# Altium footprint library diode.PcbLib: 49 footprints (part 2 of 4)
Each footprint in its own frame and in the unit in brackets; x right, y up, seen from the top. Pads: shape width x height; smd on the part's side, far side on the other; paste and mask are expansions set on the pad; w line width, h text height; cw(c..) or ccw(c..) is an arc to the next point about the centre after c.
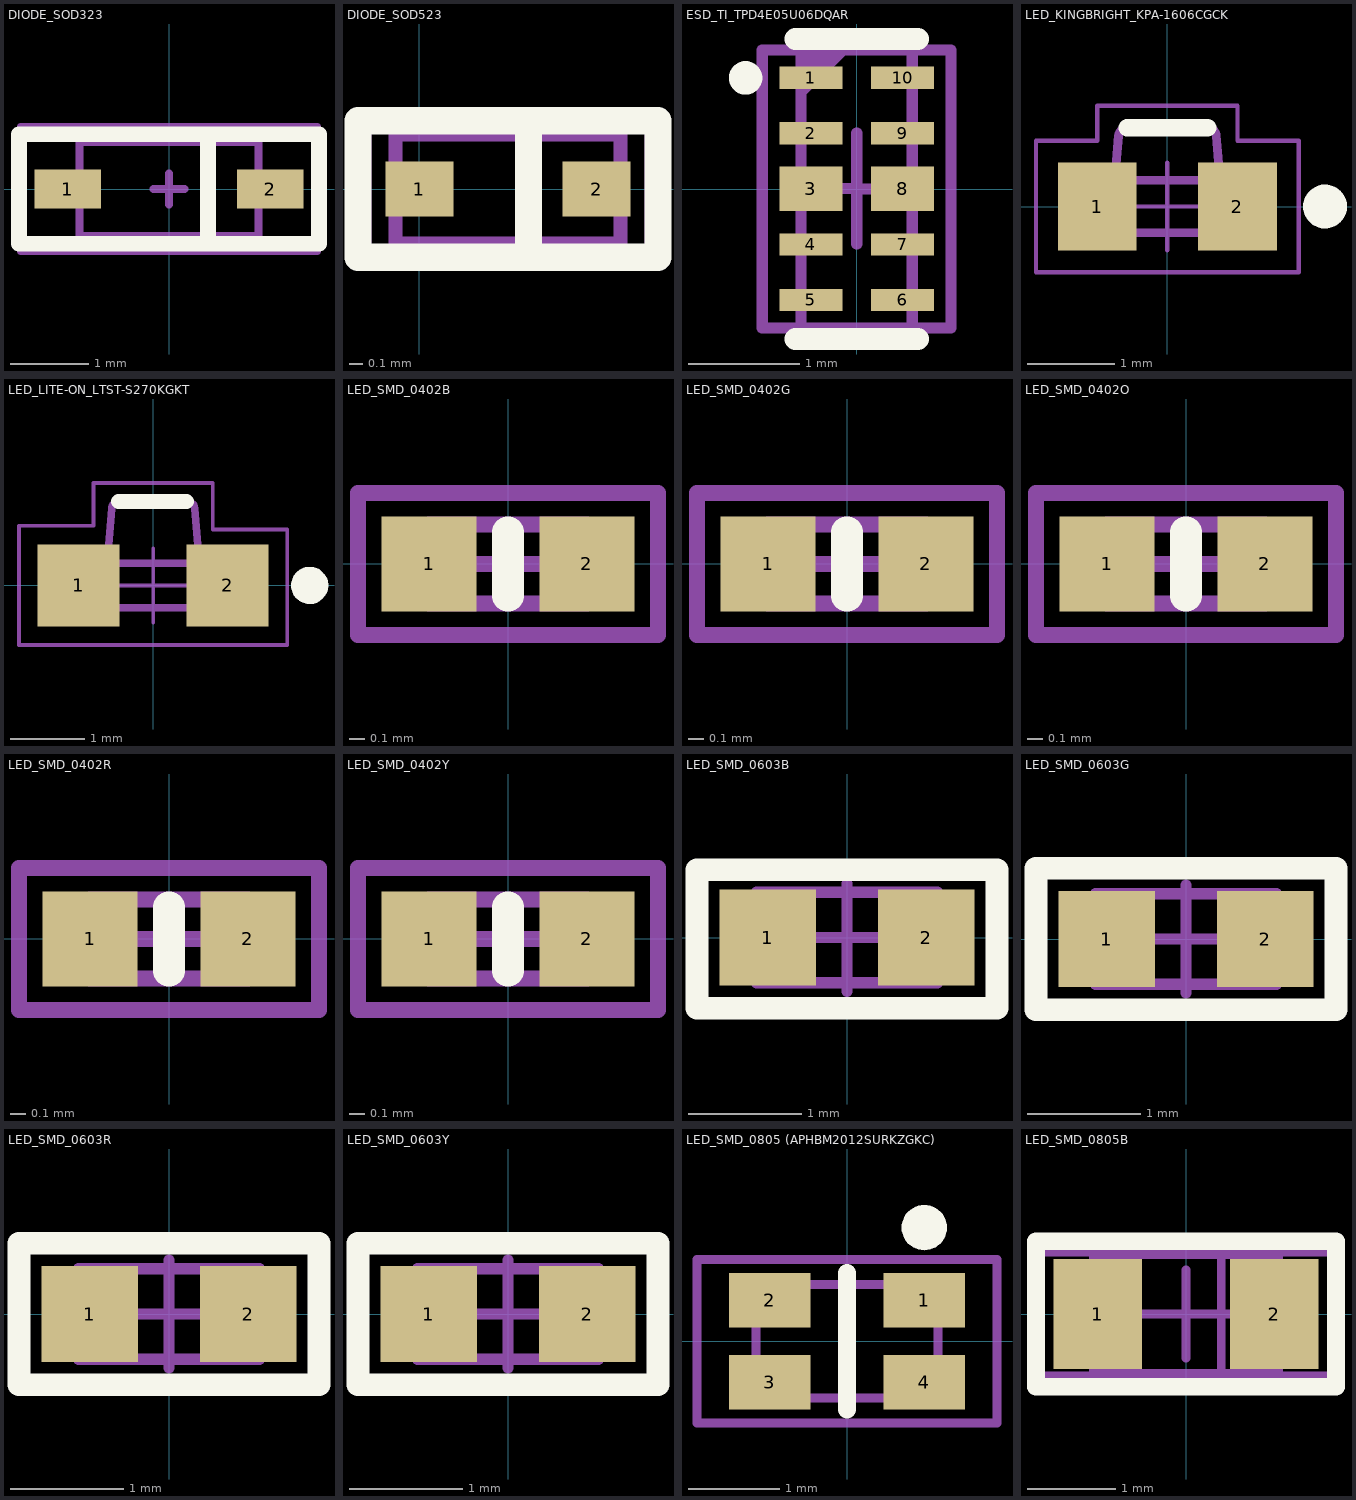
[diagram p1: the footprints below, top view; thin cyan lines are the x and y axes]

## DIODE_SOD323 [mm]
pads (2):
  rect 0.85x0.5 smd: 1(-1.3,0) 2(1.3,0)
Top Overlay:
  lines w0.2: 0.5,-0.7 0.5,0.7 ; -1.925,-0.7 1.925,-0.7 1.925,0.7 -1.925,0.7 -1.925,-0.7
Mechanical 1:
  lines w0.1: 0.5,-0.6 0.5,0.575 ; -1.15,-0.6 -1.15,0.6 1.15,0.6 1.15,-0.6 -1.15,-0.6
Mechanical 15:
  lines w0.1: -0.2,0 0.2,0 ; 0,-0.2 0,0.2 ; -1.9,-0.8 1.9,-0.8 1.9,0.8 -1.9,0.8 -1.9,-0.8
3D body "User Library-1N4148WS.STEP": height 1.04, standoff -0.06, extent -1.15,-0.6 1.15,0.6

## DIODE_SOD523 [mm]
pads (2):
  rect 0.5x0.4 smd: 1(0,0) 2(1.3,0)
Top Overlay:
  lines w0.2: 0.8,-0.4 0.8,0.5 ; -0.45,-0.5 1.75,-0.5 1.75,0.5 -0.45,0.5 -0.45,-0.5
Mechanical 1:
  lines w0.1: 0.8,-0.4 0.8,0.4 ; -0.175,-0.4 -0.175,0.4 1.4,0.4 1.475,0.4 1.475,-0.4 -0.175,-0.4
Mechanical 15:
  lines w0.1: -0.4,-0.5 1.7,-0.5 1.7,0.5 -0.4,0.5 -0.4,-0.5
3D body "User Library-SOD523-2.STEP": height 0.65, standoff 0, extent -0.175,-0.4 1.475,0.4

## ESD_TI_TPD4E05U06DQAR [mm] "SON (DFN), 50mm Pitch; 10 Pin, 1.00mm W X 2.50mm L X 0.50mm H body"
height 0.5
pads (10):
  rect 0.565x0.2 smd paste-0.05: 1(-0.412,1.002) 2(-0.412,0.502) 4(-0.412,-0.498) 5(-0.412,-0.998) 6(0.413,-0.998) 7(0.413,-0.498) 9(0.413,0.502) 10(0.413,1.002)
  rect 0.565x0.4 smd paste-0.05: 3(-0.412,0.002) 8(0.413,0.002)
Top Overlay:
  circle w0.25: c-1,1 r0.025
  lines w0.2: -0.55,-1.35 0.55,-1.35 ; -0.55,1.35 0.55,1.35
Mechanical 1:
  lines w0.1: -0.5,0.75 -0.5,0.875 -0.125,1.25 ; 0,1.25 -0.125,1.25 ; -0.25,1.25 -0.5,1 -0.5,1.125 -0.375,1.25 -0.25,1.25 ; -0.25,1.25 -0.125,1.25 ; -0.5,-1.25 0.5,-1.25 0.5,1.25 -0.5,1.25 -0.5,-1.25
Mechanical 15:
  lines w0.1: -0.5,0.004 0,0.004 0,0.504 ; 0,-0.496 0,0 0.5,0 ; -0.85,-1.25 -0.85,1.25 0.85,1.25 0.85,-1.25 -0.85,-1.25
3D body "TPD4E05U06DQAR--3DModel-STEP-56544.STEP": height 0.55, standoff 0, extent -0.5,-1.25 0.5,1.25

## LED_KINGBRIGHT_KPA-1606CGCK [mm] "SMT Green LED, Right Angle Mount, Body L 1.6 x W 0.6mm H 1.2mm"
height 1.2
pads (2):
  rect 0.9x1 smd: 1(-0.8,0) 2(0.8,0)
Top Overlay:
  circle w0.25: c1.8,0 r0.125
  lines w0.2: -0.458,0.9 0.458,0.9
Mechanical 1:
  lines w0.1: -0.6,0.3 -0.558,0.808 cw(c-0.458,0.8) -0.458,0.9 0.458,0.9 cw(c0.458,0.8) 0.558,0.808 0.6,0.3 ; -0.8,-0.3 0.8,-0.3 0.8,0.3 -0.8,0.3 -0.8,-0.3
Mechanical 15:
  lines w0.05: -0.5,0 0,0 ; 0,-0.5 0,0 ; 0,0.5 0,0 ; 0.5,0 0,0 ; -1.5,-0.75 -1.5,0.75 -0.8,0.75 -0.8,1.15 0.8,1.15 0.8,0.75 1.5,0.75 1.5,-0.75 -1.5,-0.75
3D body "LED_KINGBRIGHT_KPA-1606CGCK_Part1.stp": height 0.6, standoff 0, extent -0.8,-0.3 0.8,0.4
3D body "LED_KINGBRIGHT_KPA-1606CGCK_Part2.stp": height 0.6, standoff 0, extent -0.6,0 0.6,0.6

## LED_LITE-ON_LTST-S270KGKT [mm] "SMT Green LED, Right Angle Mount, Body L 1.65 x W 0.68mm H 1.15mm"
height 1.2
pads (2):
  rect 1.1x1.1 smd: 1(-1,0) 2(1,0)
Top Overlay:
  circle w0.25: c2.1,0 r0.125
  lines w0.2: -0.466,1.125 0.45,1.125
Mechanical 1:
  lines w0.1: -0.618,0.304 -0.558,1.033 cw(c-0.458,1.025) -0.458,1.125 0.458,1.125 cw(c0.458,1.025) 0.558,1.033 0.619,0.301 ; -0.8,-0.3 0.8,-0.3 0.8,0.3 -0.8,0.3 -0.8,-0.3
Mechanical 15:
  lines w0.05: -0.5,0 0,0 ; 0,-0.5 0,0 ; 0,0.5 0,0 ; 0.5,0 0,0 ; -1.8,-0.8 1.8,-0.8 1.8,0.75 0.8,0.75 0.8,1.375 -0.8,1.375 -0.8,0.8 -1.8,0.8 -1.8,-0.8
3D body "LTST-S270KGKT.STEP": height 0.6, standoff 0, extent -0.825,-0.325 0.825,0.825

## LED_SMD_0402B [mm]
height 0.35
pads (2):
  rect 0.6x0.6 smd: 1(-0.5,0) 2(0.5,0)
Top Overlay:
  lines w0.2: 0,-0.2 0,0.2
Mechanical 1:
  lines w0.1: -0.5,-0.25 -0.5,0.25 0.5,0.25 0.5,-0.25 -0.5,-0.25
Mechanical 15:
  lines w0.1: -0.25,0 0.25,0 ; 0,-0.25 0,0.25 ; -0.95,-0.45 -0.95,0.45 0.95,0.45 0.95,-0.45 -0.95,-0.45
3D body "666.STEP": height 0.45, standoff 0, extent -0.505,-0.25 0.505,0.25

## LED_SMD_0402G [mm]
height 0.35
pads (2):
  rect 0.6x0.6 smd: 1(-0.5,0) 2(0.5,0)
Top Overlay:
  lines w0.2: 0,-0.2 0,0.2
Mechanical 1:
  lines w0.1: -0.5,-0.25 -0.5,0.25 0.5,0.25 0.5,-0.25 -0.5,-0.25
Mechanical 15:
  lines w0.1: -0.25,0 0.25,0 ; 0,-0.25 0,0.25 ; -0.95,-0.45 -0.95,0.45 0.95,0.45 0.95,-0.45 -0.95,-0.45
3D body "User Library-led_0402 green.STEP": height 0.45, standoff 0, extent -0.505,-0.25 0.505,0.25

## LED_SMD_0402O [mm]
height 0.35
pads (2):
  rect 0.6x0.6 smd: 1(-0.5,0) 2(0.5,0)
Top Overlay:
  lines w0.2: 0,-0.2 0,0.2
Mechanical 1:
  lines w0.1: -0.5,-0.25 0.5,-0.25 0.5,0.25 -0.5,0.25 -0.5,-0.25
Mechanical 15:
  lines w0.1: -0.25,0 0.25,0 ; 0,-0.25 0,0.25 ; -0.95,-0.45 0.95,-0.45 0.95,0.45 -0.95,0.45 -0.95,-0.45
3D body "8888.STEP": height 0.45, standoff 0, extent -0.505,-0.25 0.505,0.25

## LED_SMD_0402R [mm]
height 0.35
pads (2):
  rect 0.6x0.6 smd: 1(-0.5,0) 2(0.5,0)
Top Overlay:
  lines w0.2: 0,-0.2 0,0.2
Mechanical 1:
  lines w0.1: -0.5,-0.25 0.5,-0.25 0.5,0.25 -0.5,0.25 -0.5,-0.25
Mechanical 15:
  lines w0.1: -0.25,0 0.25,0 ; 0,-0.25 0,0.25 ; -0.95,-0.45 0.95,-0.45 0.95,0.45 -0.95,0.45 -0.95,-0.45
3D body "User Library-led_0402.STEP": height 0.48, standoff 0.03, extent -0.505,-0.25 0.505,0.25

## LED_SMD_0402Y [mm]
height 0.35
pads (2):
  rect 0.6x0.6 smd: 1(-0.5,0) 2(0.5,0)
Top Overlay:
  lines w0.2: 0,-0.2 0,0.2
Mechanical 1:
  lines w0.1: -0.5,-0.25 -0.5,0.25 0.5,0.25 0.5,-0.25 -0.5,-0.25
Mechanical 15:
  lines w0.1: -0.25,0 0.25,0 ; 0,-0.25 0,0.25 ; -0.95,-0.45 -0.95,0.45 0.95,0.45 0.95,-0.45 -0.95,-0.45
3D body "777.STEP": height 0.45, standoff 0, extent -0.505,-0.25 0.505,0.25

## LED_SMD_0603B [mm]
height 0.45
pads (2):
  rect 0.85x0.85 smd: 1(-0.7,0) 2(0.7,0)
Top Overlay:
  lines w0.2: -1.325,-0.625 1.325,-0.625 1.325,0.6 -1.325,0.6 -1.325,-0.625
Mechanical 1:
  lines w0.1: -0.8,-0.4 0.8,-0.4 0.8,0.4 -0.8,0.4 -0.8,-0.4
Mechanical 15:
  lines w0.1: -0.475,0 0.475,0 ; 0,-0.475 0,0.475 ; -1.325,-0.625 -1.325,0.6 1.325,0.6 1.325,-0.625 -1.325,-0.625
3D body "User Library-LED_0603_B.STEP": height 0.6, standoff 0, extent -0.8,-0.4 0.8,0.4

## LED_SMD_0603G [mm]
height 0.45
pads (2):
  rect 0.85x0.85 smd: 1(-0.7,0) 2(0.7,0)
Top Overlay:
  lines w0.2: -1.325,-0.625 -1.325,0.625 1.325,0.625 1.325,-0.625 -1.325,-0.625
Mechanical 1:
  lines w0.1: -0.8,-0.4 -0.8,0.4 0.8,0.4 0.8,-0.4 -0.8,-0.4
Mechanical 15:
  lines w0.1: -0.475,0 0.475,0 ; 0,-0.475 0,0.475 ; -1.325,-0.625 -1.325,0.6 1.325,0.6 1.325,-0.625 -1.325,-0.625
3D body "User Library-LED_0603_G.STEP": height 0.6, standoff 0, extent -0.8,-0.4 0.8,0.4

## LED_SMD_0603R [mm]
height 0.45
pads (2):
  rect 0.85x0.85 smd: 1(-0.7,0) 2(0.7,0)
Top Overlay:
  lines w0.2: -1.325,-0.625 -1.325,0.625 1.325,0.625 1.325,-0.625 -1.325,-0.625
Mechanical 1:
  lines w0.1: -0.8,-0.4 -0.8,0.4 0.8,0.4 0.8,-0.4 -0.8,-0.4
Mechanical 15:
  lines w0.1: -0.475,0 0.475,0 ; 0,-0.475 0,0.475 ; -1.325,-0.625 -1.325,0.6 1.325,0.6 1.325,-0.625 -1.325,-0.625
3D body "User Library-LED_0603_R.STEP": height 0.6, standoff 0, extent -0.8,-0.4 0.8,0.4

## LED_SMD_0603Y [mm]
height 0.45
pads (2):
  rect 0.85x0.85 smd: 1(-0.7,0) 2(0.7,0)
Top Overlay:
  lines w0.2: -1.325,-0.625 1.325,-0.625 1.325,0.625 -1.325,0.625 -1.325,-0.625
Mechanical 1:
  lines w0.1: -0.8,-0.4 0.8,-0.4 0.8,0.4 -0.8,0.4 -0.8,-0.4
Mechanical 15:
  lines w0.1: -0.475,0 0.475,0 ; 0,-0.475 0,0.475 ; -1.325,-0.625 1.325,-0.625 1.325,0.6 -1.325,0.6 -1.325,-0.625
3D body "User Library-LED_0603_Y.STEP": height 0.6, standoff 0, extent -0.8,-0.4 0.8,0.4

## LED_SMD_0805 (APHBM2012SURKZGKC) [mm]
pads (5):
  rect 0.9x0.6 smd: 1(0.85,0.45) 2(-0.85,0.45) 3(-0.85,-0.45) 4(0.85,-0.45)
  round 0.5 on Top Overlay: ""(0.85,1.25)
Top Overlay:
  lines w0.2: 0,-0.75 0,0.75
Mechanical 1:
  lines w0.1: -1,-0.625 -1,0.625 1,0.625 1,-0.625 -1,-0.625
Mechanical 15:
  lines w0.1: -1.65,-0.9 -1.65,0.9 1.65,0.9 1.65,-0.9 -1.65,-0.9
3D body "APHBM2012.STEP": height 0.43, standoff -0.03, extent -1,-0.625 1,0.625

## LED_SMD_0805B [mm]
height 1
pads (2):
  rect 1x1.25 smd: 1(-1,0) 2(1,0)
Top Overlay:
  lines w0.2: -1.7,-0.825 -1.7,0.825 1.7,0.825 1.7,-0.825 -1.7,-0.825
Mechanical 1:
  lines w0.1: 0.4,-0.675 0.4,0.675 ; -1.05,-0.675 -1.05,0.675 1.05,0.675 1.05,-0.675 -1.05,-0.675
Mechanical 15:
  lines w0.1: -0.5,0 0.5,0 ; 0,-0.5 0,0.5 ; -1.7,-0.7 1.7,-0.7 1.7,0.7 -1.7,0.7 -1.7,-0.7
3D body "LED 0805 - BLUE.STEP": height 0.9, standoff -0.01, extent -1.05,-0.675 1.05,0.675